# EAGLE library part ARDUINO_MINI (library Boards)
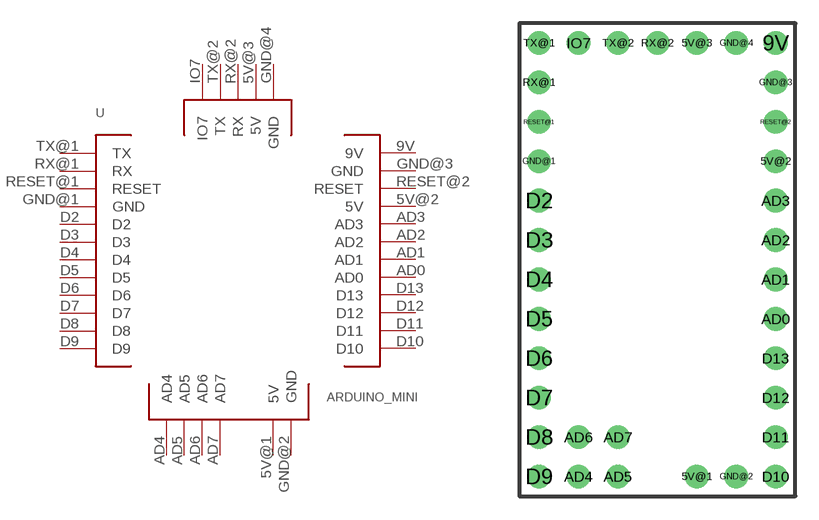
[diagram p7: symbol with the pads of ARDUINO_MINI; footprint ARDUINO_MINI]

Designator prefix -

## ARDUINO_MINI  [ARDUINO_MINI]
5V@1  5V  pwr
5V@2  5V  pwr
5V@3  5V  pwr
9V  9V  pwr
AD0  AD0
AD1  AD1
AD2  AD2
AD3  AD3
AD4  AD4
AD5  AD5
AD6  AD6
AD7  AD7
D2  D2
D3  D3
D4  D4
D5  D5
D6  D6
D7  D7
D8  D8
D9  D9
D10  D10
D11  D11
D12  D12
D13  D13
GND@1  GND  pwr
GND@2  GND  pwr
GND@3  GND  pwr
GND@4  GND  pwr
IO7  IO7
RESET@1  RESET
RESET@2  RESET
RX@1  RX
RX@2  RX
TX@1  TX
TX@2  TX

## Footprint ARDUINO_MINI (pad centres in mm)
drill 1.016: 5V@1 2.54,-13.97; 5V@2 7.62,6.35; 5V@3 2.54,13.97; 9V 7.62,13.97; AD0 7.62,-3.81; AD1 7.62,-1.27; AD2 7.62,1.27; AD3 7.62,3.81; AD4 -5.08,-13.97; AD5 -2.54,-13.97; AD6 -5.08,-11.43; AD7 -2.54,-11.43; D2 -7.62,3.81; D3 -7.62,1.27; D4 -7.62,-1.27; D5 -7.62,-3.81; D6 -7.62,-6.35; D7 -7.62,-8.89; D8 -7.62,-11.43; D9 -7.62,-13.97; D10 7.62,-13.97; D11 7.62,-11.43; D12 7.62,-8.89; D13 7.62,-6.35; GND@1 -7.62,6.35; GND@2 5.08,-13.97; GND@3 7.62,11.43; GND@4 5.08,13.97; IO7 -5.08,13.97; RESET@1 -7.62,8.89; RESET@2 7.62,8.89; RX@1 -7.62,11.43; RX@2 0,13.97; TX@1 -7.62,13.97; TX@2 -2.54,13.97